# Altium schematic symbol library CL21A475KLCLQNC.SchLib: 1 symbol
Pins are listed as number, name and electrical type; pins without a type are passive.

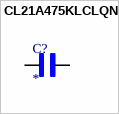
[diagram p0: symbol CL21A475KLCLQNC]

## CL21A475KLCLQNC
designator C?
MLCC 0805 X5R 4.7uF Â±10% 35V T:0.85mm; MF: {'manufacturer': u'Samsung'}; MP: CL21A475KLCLQNC; Package: None; Price: None; Value: *; Availability: Unavailable
footprint CAPC2012X135N
pins: 1, 2